# Altium schematic symbol library STM8S103F.SchLib: 3 symbols
Pins are listed as number, name and electrical type; pins without a type are passive.

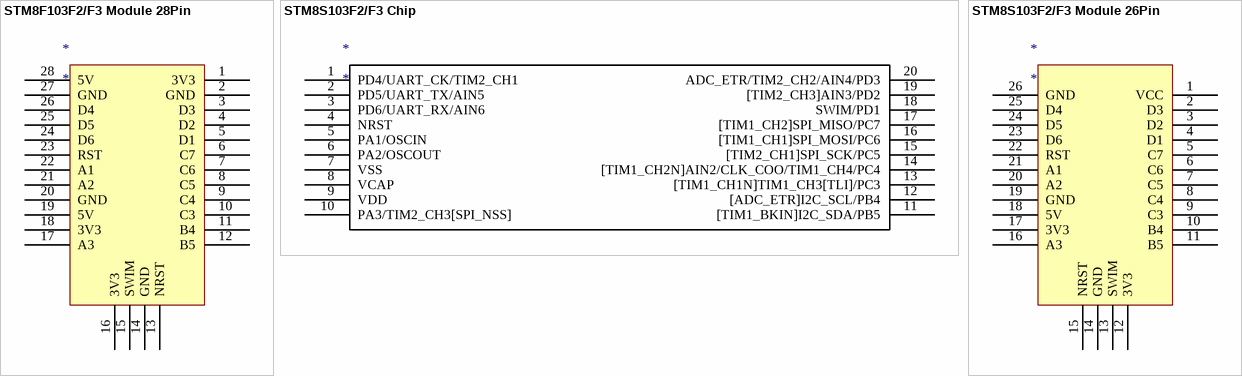
[diagram p0: symbols STM8F103F2/F3 Module 28Pin to STM8S103F2/F3 Module 26Pin]

## STM8F103F2/F3 Module 28Pin
designator *
pins: 1 3V3, 2 GND, 3 D3, 4 D2, 5 D1, 6 C7, 7 C6, 8 C5, 9 C4, 10 C3, 11 B4, 12 B5, 13 NRST, 14 GND, 15 SWIM, 16 3V3, 17 A3, 18 3V3, 19 5V, 20 GND, 21 A2, 22 A1, 23 RST, 24 D6, 25 D5, 26 D4, 27 GND, 28 5V

## STM8S103F2/F3 Chip
designator *
pins: 1 PD4/UART_CK/TIM2_CH1, 2 PD5/UART_TX/AIN5, 3 PD6/UART_RX/AIN6, 4 NRST, 5 PA1/OSCIN, 6 PA2/OSCOUT, 7 VSS, 8 VCAP, 9 VDD, 10 PA3/TIM2_CH3[SPI_NSS], 11 [TIM1_BKIN]I2C_SDA/PB5, 12 [ADC_ETR]I2C_SCL/PB4, 13 [TIM1_CH1N]TIM1_CH3[TLI]/PC3, 14 [TIM1_CH2N]AIN2/CLK_COO/TIM1_CH4/PC4, 15 [TIM2_CH1]SPI_SCK/PC5, 16 [TIM1_CH1]SPI_MOSI/PC6, 17 [TIM1_CH2]SPI_MISO/PC7, 18 SWIM/PD1, 19 [TIM2_CH3]AIN3/PD2, 20 ADC_ETR/TIM2_CH2/AIN4/PD3

## STM8S103F2/F3 Module 26Pin
designator *
pins: 1 VCC, 2 D3, 3 D2, 4 D1, 5 C7, 6 C6, 7 C5, 8 C4, 9 C3, 10 B4, 11 B5, 12 3V3, 13 SWIM, 14 GND, 15 NRST, 16 A3, 17 3V3, 18 5V, 19 GND, 20 A2, 21 A1, 22 RST, 23 D6, 24 D5, 25 D4, 26 GND